# Altium schematic symbol library MIC2025.Schlib: 1 symbol
Pins are listed as number, name and electrical type; pins without a type are passive.

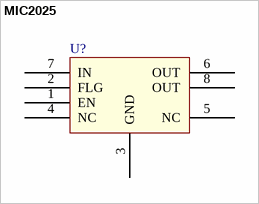
[diagram p0: symbol MIC2025]

## MIC2025
designator U?
pins: 1 EN, 2 FLG, 3 GND, 4 NC, 5 NC, 6 OUT, 7 IN, 8 OUT